# Altium footprint library 618 0xx 231 321.PcbLib: 4 footprints
Each footprint in its own frame and in the unit in brackets; x right, y up, seen from the top. Pads: shape width x height; smd on the part's side, far side on the other; paste and mask are expansions set on the pad; w line width, h text height; cw(c..) or ccw(c..) is an arc to the next point about the centre after c.
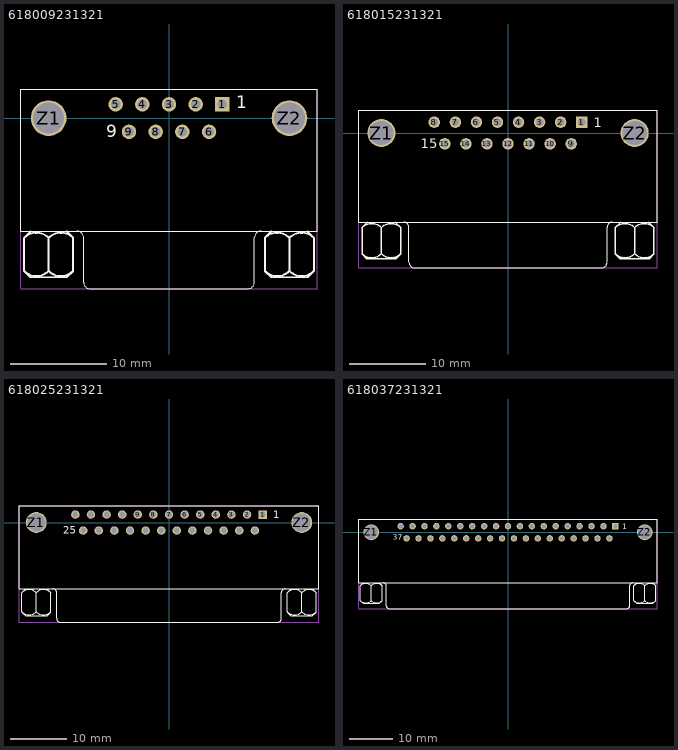
[diagram p0: the footprints below, top view; thin cyan lines are the x and y axes]

## 618009231321 [mm] "9 pins, right angled, 10.3mm, with hex screw"
height 12.5
pads (11):
  rect 1.5x1.5 hole 1: 1(5.54,1.42)
  round 1.5 hole 1: 2(2.77,1.42) 3(0,1.42) 4(-2.77,1.42) 5(-5.54,1.42) 6(4.155,-1.42) 7(1.385,-1.42) 8(-1.385,-1.42) 9(-4.155,-1.42)
  round 3.7 hole 3.2: Z1(-12.5,0) Z2(12.5,0)
Top Overlay:
  lines w0.127: -9.56,-11.725 cw(c-9.56,-12.42) -8.865,-12.42 -8.865,-17.02 ; -8.86,-17.025 ccw(c-8.165,-17.025) -8.165,-17.72 8.165,-17.72 ccw(c8.165,-17.025) 8.86,-17.025 ; 8.865,-17.02 8.865,-12.42 cw(c9.56,-12.42) 9.56,-11.725 ; -15.4,-11.72 15.4,-11.72 15.4,3 -15.4,3 -15.4,-11.72
  lines w0.2: -15.042,-15.885 -14.407,-16.52 -10.597,-16.52 -9.962,-15.885 -9.962,-12.429 -10.636,-11.756 ; -15.042,-15.87 -15.042,-12.429 -14.371,-11.758 ; -15.042,-14.818 -15.042,-14.606 ; -12.502,-15.87 -12.502,-12.429 ; 9.958,-15.885 10.593,-16.52 14.403,-16.52 15.038,-15.885 15.038,-12.429 14.364,-11.756 ; 9.958,-15.87 9.958,-12.429 10.629,-11.758 ; 9.958,-14.818 9.958,-14.606 ; 12.498,-15.87 12.498,-12.429
  lines w0.203: -15.044,-12.427 cw(c-13.772,-13.699) -12.5,-12.427 ; -15.042,-15.87 ccw(c-13.77,-14.598) -12.498,-15.87 ; -12.507,-15.87 ccw(c-11.234,-14.598) -9.962,-15.87 ; -12.504,-12.427 cw(c-11.232,-13.699) -9.96,-12.427 ; 9.956,-12.427 cw(c11.228,-13.699) 12.5,-12.427 ; 9.958,-15.87 ccw(c11.23,-14.598) 12.502,-15.87 ; 12.493,-15.87 ccw(c13.766,-14.598) 15.038,-15.87 ; 12.496,-12.427 cw(c13.768,-13.699) 15.04,-12.427
  text "9" at -6.5,-2 h1.27
  text "1" at 7,1 h1.27
Mechanical 13:
  lines w0.127: -15.4,-17.72 15.4,-17.72 15.4,3 -15.4,3 -15.4,-17.72
3D body: height 12.51, standoff -3.17, extent -15.4,-17.72 15.4,3.03

## 618015231321 [mm] "15 pins, right angled, 10.3mm, with hex screw"
height 12.5
pads (17):
  rect 1.5x1.5 hole 1: 1(9.695,1.42)
  round 1.5 hole 1: 2(6.925,1.42) 3(4.155,1.42) 4(1.385,1.42) 5(-1.385,1.42) 6(-4.155,1.42) 7(-6.925,1.42) 8(-9.695,1.42) 9(8.31,-1.42) 10(5.54,-1.42) 11(2.77,-1.42) 12(0,-1.42) 13(-2.77,-1.42) 14(-5.54,-1.42) 15(-8.31,-1.42)
  round 3.7 hole 3.2: Z1(-16.65,0) Z2(16.65,0)
Top Overlay:
  lines w0.127: -13.715,-11.725 cw(c-13.715,-12.42) -13.02,-12.42 -13.02,-17.02 ; -13.015,-17.025 ccw(c-12.32,-17.025) -12.32,-17.72 12.32,-17.72 ccw(c12.32,-17.025) 13.015,-17.025 ; 13.02,-17.02 13.02,-12.42 cw(c13.715,-12.42) 13.715,-11.725 ; -19.6,-11.72 19.6,-11.72 19.6,3 -19.6,3 -19.6,-11.72
  lines w0.2: -19.192,-15.885 -18.557,-16.52 -14.747,-16.52 -14.112,-15.885 -14.112,-12.429 -14.786,-11.756 ; -19.192,-15.87 -19.192,-12.429 -18.521,-11.758 ; -19.192,-14.818 -19.192,-14.606 ; -16.652,-15.87 -16.652,-12.429 ; 14.108,-15.885 14.743,-16.52 18.553,-16.52 19.188,-15.885 19.188,-12.429 18.514,-11.756 ; 14.108,-15.87 14.108,-12.429 14.779,-11.758 ; 14.108,-14.818 14.108,-14.606 ; 16.648,-15.87 16.648,-12.429
  lines w0.203: -19.194,-12.427 cw(c-17.922,-13.699) -16.65,-12.427 ; -19.192,-15.87 ccw(c-17.92,-14.598) -16.648,-15.87 ; -16.657,-15.87 ccw(c-15.384,-14.598) -14.112,-15.87 ; -16.654,-12.427 cw(c-15.382,-13.699) -14.11,-12.427 ; 14.106,-12.427 cw(c15.378,-13.699) 16.65,-12.427 ; 14.108,-15.87 ccw(c15.38,-14.598) 16.652,-15.87 ; 16.643,-15.87 ccw(c17.916,-14.598) 19.188,-15.87 ; 16.646,-12.427 cw(c17.918,-13.699) 19.19,-12.427
  text "15" at -11.5,-2 h1.27
  text "1" at 11.25,0.75 h1.27
Mechanical 13:
  lines w0.127: -19.6,-17.72 -19.6,3 19.6,3 19.6,-17.72 -19.6,-17.72
3D body: height 12.51, standoff -3.17, extent -19.6,-17.72 19.6,3.03

## 618025231321 [mm] "25 pins, right angled, 10.3mm, with hex screw"
height 12.5
pads (27):
  rect 1.5x1.5 hole 1: 1(16.62,1.42)
  round 1.5 hole 1: 2(13.85,1.42) 3(11.08,1.42) 4(8.31,1.42) 5(5.54,1.42) 6(2.77,1.42) 7(0,1.42) 8(-2.77,1.42) 9(-5.54,1.42) 10(-8.31,1.42) 11(-11.08,1.42) 12(-13.85,1.42) 13(-16.62,1.42) 14(15.235,-1.42) 15(12.465,-1.42) 16(9.695,-1.42) 17(6.925,-1.42) 18(4.155,-1.42) 19(1.385,-1.42) 20(-1.385,-1.42) 21(-4.155,-1.42) 22(-6.925,-1.42) 23(-9.695,-1.42) 24(-12.465,-1.42) 25(-15.235,-1.42)
  round 3.7 hole 3.2: Z1(-23.55,0) Z2(23.55,0)
Top Overlay:
  lines w0.127: -20.64,-11.725 cw(c-20.64,-12.42) -19.945,-12.42 -19.945,-17.02 ; -19.94,-17.025 ccw(c-19.245,-17.025) -19.245,-17.72 19.245,-17.72 ccw(c19.245,-17.025) 19.94,-17.025 ; 19.945,-17.02 19.945,-12.42 cw(c20.64,-12.42) 20.64,-11.725 ; -26.55,-11.72 26.55,-11.72 26.55,3 -26.55,3 -26.55,-11.72
  lines w0.2: -26.092,-15.885 -25.457,-16.52 -21.647,-16.52 -21.012,-15.885 -21.012,-12.429 -21.686,-11.756 ; -26.092,-15.87 -26.092,-12.429 -25.421,-11.758 ; -26.092,-14.818 -26.092,-14.606 ; -23.552,-15.87 -23.552,-12.429 ; 21.008,-15.885 21.643,-16.52 25.453,-16.52 26.088,-15.885 26.088,-12.429 25.414,-11.756 ; 21.008,-15.87 21.008,-12.429 21.679,-11.758 ; 21.008,-14.818 21.008,-14.606 ; 23.548,-15.87 23.548,-12.429
  lines w0.203: -26.094,-12.427 cw(c-24.822,-13.699) -23.55,-12.427 ; -26.092,-15.87 ccw(c-24.82,-14.598) -23.548,-15.87 ; -23.557,-15.87 ccw(c-22.284,-14.598) -21.012,-15.87 ; -23.554,-12.427 cw(c-22.282,-13.699) -21.01,-12.427 ; 21.006,-12.427 cw(c22.278,-13.699) 23.55,-12.427 ; 21.008,-15.87 ccw(c22.28,-14.598) 23.552,-15.87 ; 23.543,-15.87 ccw(c24.816,-14.598) 26.088,-15.87 ; 23.546,-12.427 cw(c24.818,-13.699) 26.09,-12.427
  text "25" at -18.75,-2 h1.27
  text "1" at 18.5,0.75 h1.27
Mechanical 13:
  lines w0.127: -26.55,-17.72 -26.55,3 26.55,3 26.55,-17.72 -26.55,-17.72
3D body: height 12.51, standoff -3.17, extent -26.55,-17.72 26.55,3.03

## 618037231321 [mm] "37 pins, right angled, 10.3mm, with hex screw"
height 12.5
pads (39):
  rect 1.5x1.5 hole 1: 1(24.93,1.42)
  round 1.5 hole 1: 2(22.16,1.42) 3(19.39,1.42) 4(16.62,1.42) 5(13.85,1.42) 6(11.08,1.42) 7(8.31,1.42) 8(5.54,1.42) 9(2.77,1.42) 10(0,1.42) 11(-2.77,1.42) 12(-5.54,1.42) 13(-8.31,1.42) 14(-11.08,1.42) 15(-13.85,1.42) 16(-16.62,1.42) 17(-19.39,1.42) 18(-22.16,1.42) 19(-24.93,1.42) 20(23.545,-1.42) 21(20.775,-1.42) 22(18.005,-1.42) 23(15.235,-1.42) 24(12.465,-1.42) 25(9.695,-1.42) 26(6.925,-1.42) 27(4.155,-1.42) 28(1.385,-1.42) 29(-1.385,-1.42) 30(-4.155,-1.42) 31(-6.925,-1.42) 32(-9.695,-1.42) 33(-12.465,-1.42) 34(-15.235,-1.42) 35(-18.005,-1.42) 36(-20.775,-1.42) 37(-23.545,-1.42)
  round 3.7 hole 3.2: Z1(-31.75,0) Z2(31.75,0)
Top Overlay:
  lines w0.127: -28.95,-11.725 cw(c-28.95,-12.42) -28.255,-12.42 -28.255,-17.02 ; -28.25,-17.025 ccw(c-27.555,-17.025) -27.555,-17.72 27.555,-17.72 ccw(c27.555,-17.025) 28.25,-17.025 ; 28.255,-17.02 28.255,-12.42 cw(c28.95,-12.42) 28.95,-11.725 ; -34.7,-11.72 -34.7,3 34.7,3 34.7,-11.72 -34.7,-11.72
  lines w0.2: -34.292,-15.885 -33.657,-16.52 -29.847,-16.52 -29.212,-15.885 -29.212,-12.429 -29.886,-11.756 ; -34.292,-15.87 -34.292,-12.429 -33.621,-11.758 ; -34.292,-14.818 -34.292,-14.606 ; -31.752,-15.87 -31.752,-12.429 ; 29.208,-15.885 29.843,-16.52 33.653,-16.52 34.288,-15.885 34.288,-12.429 33.614,-11.756 ; 29.208,-15.87 29.208,-12.429 29.879,-11.758 ; 29.208,-14.818 29.208,-14.606 ; 31.748,-15.87 31.748,-12.429
  lines w0.203: -34.294,-12.427 cw(c-33.022,-13.699) -31.75,-12.427 ; -34.292,-15.87 ccw(c-33.02,-14.598) -31.748,-15.87 ; -31.757,-15.87 ccw(c-30.484,-14.598) -29.212,-15.87 ; -31.754,-12.427 cw(c-30.482,-13.699) -29.21,-12.427 ; 29.206,-12.427 cw(c30.478,-13.699) 31.75,-12.427 ; 29.208,-15.87 ccw(c30.48,-14.598) 31.752,-15.87 ; 31.743,-15.87 ccw(c33.016,-14.598) 34.288,-15.87 ; 31.746,-12.427 cw(c33.018,-13.699) 34.29,-12.427
  text "1" at 26.5,0.75 h1.27
  text "37" at -26.75,-1.75 h1.27
Mechanical 13:
  lines w0.127: -34.7,-17.72 34.7,-17.72 34.7,3 -34.7,3 -34.7,-17.72
3D body: height 12.51, standoff -3.17, extent -34.7,-17.72 34.7,3.03